# EAGLE library part LP8556SQ-E00/NOPB (library TexasInstruments)
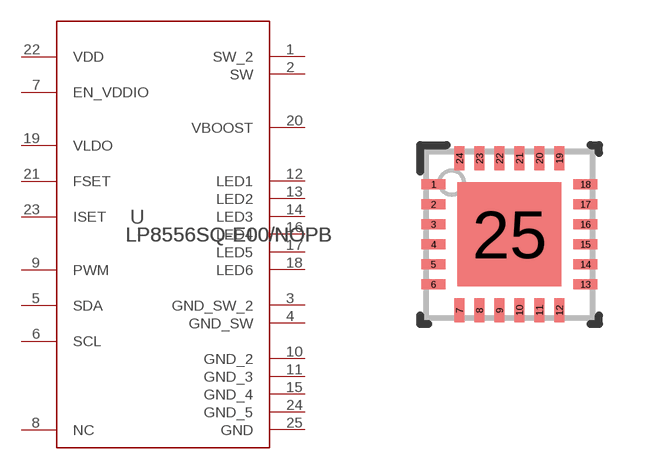
[diagram p7: symbol with the pads of RTW0024A; footprint RTW0024A]

Designator prefix U

## LP8556SQ-E00/NOPB (COPYRIGHT: Copyright (C) 2022 Ultra Librarian. All rights reserved.; MANUFACTURER_PART_NUMBER: LP8556SQ-E00/NOPB; MFR_NAME: Texas Instruments; REFDES: RefDes; TYPE: TYPE)  [RTW0024A]
1  SW_2  pwr
2  SW  pwr
3  GND_SW_2  pwr
4  GND_SW  pwr
5  SDA
6  SCL  in
7  EN_VDDIO  pwr
8  NC  pas
9  PWM  in
10  GND_2  pwr
11  GND_3  pwr
12  LED1  pwr
13  LED2  pwr
14  LED3  pwr
15  GND_4  pwr
16  LED4  pwr
17  LED5  pwr
18  LED6  pwr
19  VLDO  pwr
20  VBOOST  pwr
21  FSET  in
22  VDD  pwr
23  ISET  in
24  GND_5  pwr
25  GND  pwr

## Footprint RTW0024A (pad centres in mm)
smd 0.6 x 0.25: 1 -1.9,1.25; 2 -1.9,0.75; 3 -1.9,0.25; 4 -1.9,-0.25; 5 -1.9,-0.75; 6 -1.9,-1.25; 13 1.9,-1.25; 14 1.9,-0.75; 15 1.9,-0.25; 16 1.9,0.25; 17 1.9,0.75; 18 1.9,1.25
smd 0.25 x 0.6: 7 -1.25,-1.9; 8 -0.75,-1.9; 9 -0.25,-1.9; 10 0.25,-1.9; 11 0.75,-1.9; 12 1.25,-1.9; 19 1.25,1.9; 20 0.75,1.9; 21 0.25,1.9; 22 -0.25,1.9; 23 -0.75,1.9; 24 -1.25,1.9
smd 2.6 x 2.6: 25 0,0